# Altium schematic symbol library TOF.SchLib: 1 symbol
Pins are listed as number, name and electrical type; pins without a type are passive.

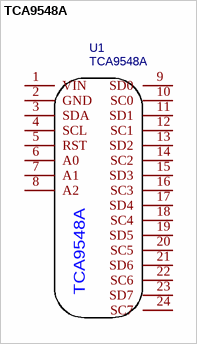
[diagram p0: symbol TCA9548A]

## TCA9548A
designator U1
Manufacturer: Texas Instruments; Contributor: Dompie; Manufacturer Part: TCA9548A; Supplier: Adafruit; Supplier Part: 2717; link: https://www.adafruit.com/product/2717; spicePre: U; spiceSymbolName: TCA9548A
footprint TCA9548A
pins: 1 VIN, 2 GND, 3 SDA, 4 SCL, 5 RST, 6 A0, 7 A1, 8 A2, 9 SD0, 10 SC0, 11 SD1, 12 SC1, 13 SD2, 14 SC2, 15 SD3, 16 SC3, 17 SD4, 18 SC4, 19 SD5, 20 SC5, 21 SD6, 22 SC6, 23 SD7, 24 SC7